# EAGLE library part PCAL9535 (library Eagle_CAD_parts)
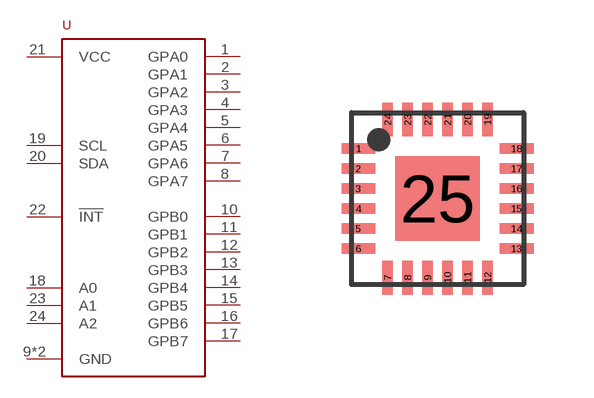
[diagram p94: symbol with the pads of SOT994-1; footprint SOT994-1]

Designator prefix U

## PCAL9535AHF,128 (DIGIKEY_PART_NUMBER: 568-9947-1-ND; MANUFACTURER_PART_NUMBER: PCAL9535AHF,128)  [SOT994-1]
1  GPA0
2  GPA1
3  GPA2
4  GPA3
5  GPA4
6  GPA5
7  GPA6
8  GPA7
9  GND  pwr
10  GPB0
11  GPB1
12  GPB2
13  GPB3
14  GPB4
15  GPB5
16  GPB6
17  GPB7
18  A0
19  SCL
20  SDA
21  VCC  pwr
22  !INT
23  A1
24  A2
25  GND  pwr

## Footprint SOT994-1 (pad centres in mm)
smd 0.85 x 0.27: 1 -1.975,1.25; 2 -1.975,0.75; 3 -1.975,0.25; 4 -1.975,-0.25; 5 -1.975,-0.75; 6 -1.975,-1.25; 13 1.975,-1.25; 14 1.975,-0.75; 15 1.975,-0.25; 16 1.975,0.25; 17 1.975,0.75; 18 1.975,1.25
smd 0.27 x 0.85: 7 -1.25,-1.975; 8 -0.75,-1.975; 9 -0.25,-1.975; 10 0.25,-1.975; 11 0.75,-1.975; 12 1.25,-1.975; 19 1.25,1.975; 20 0.75,1.975; 21 0.25,1.975; 22 -0.25,1.975; 23 -0.75,1.975; 24 -1.25,1.975
smd 2.1 x 2.1: 25 0,0